# Altium schematic symbol library res.SchLib: 11 symbols
Pins are listed as number, name and electrical type; pins without a type are passive.

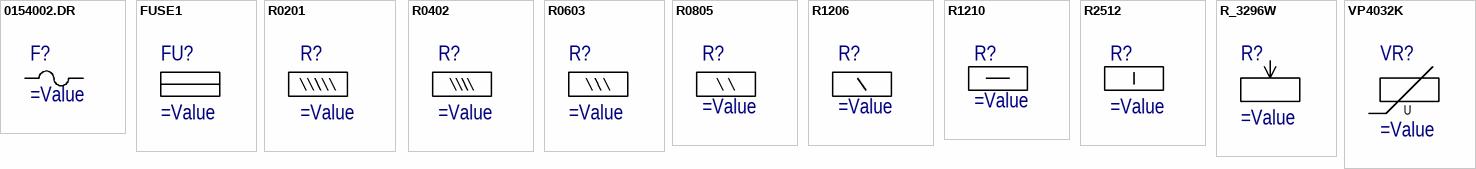
[diagram p0: symbols 0154002.DR to VP4032K]

## 0154002.DR
designator F?
Imported
pins: 1, 2

## FUSE1
designator FU?
pins: 1, 2

## R0201
designator R?
pins: 1, 2

## R0402
designator R?
pins: 1, 2

## R0603
designator R?
pins: 1, 2

## R0805
designator R?
pins: 1, 2

## R1206
designator R?
pins: 1, 2

## R1210
designator R?
pins: 1, 2

## R2512
designator R?
pins: 1, 2

## R_3296W
designator R?
pins: 1, 2, 3

## VP4032K
designator VR?
pins: 1, 2
text: U